# EAGLE library part DRIVER_MAX14941GWE+ (library BA Parts)
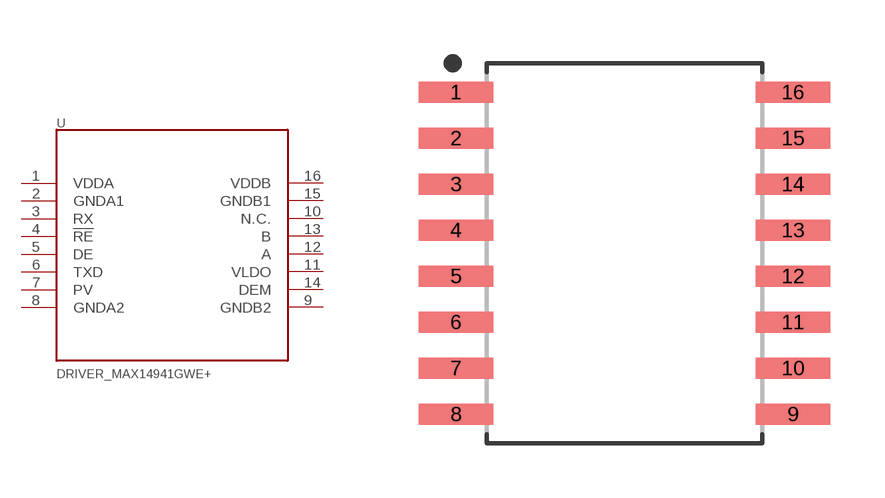
[diagram p5: symbol with the pads of SOIC127P1032X265-16N; footprint SOIC127P1032X265-16N]

Designator prefix -

## DRIVER_MAX14941GWE+  [SOIC127P1032X265-16N]
1  VDDA
2  GNDA1
3  RX
4  !RE
5  DE
6  TXD
7  PV
8  GNDA2
9  GNDB2
10  N.C.
11  VLDO
12  A
13  B
14  DEM
15  GNDB1
16  VDDB

## Footprint SOIC127P1032X265-16N (pad centres in mm)
16-SOIC, 1.27 mm pitch, 10.32 mm span, 10.30 X 7.50 X 2.65 mm body 16-pin SOIC package with 1.27 mm pitch, 10.32 mm span with body size 10.30 X 7.50 X 2.65 mm
smd 2.052 x 0.589: 1 -4.654,4.445; 2 -4.654,3.175; 3 -4.654,1.905; 4 -4.654,0.635; 5 -4.654,-0.635; 6 -4.654,-1.905; 7 -4.654,-3.175; 8 -4.654,-4.445; 9 4.654,-4.445; 10 4.654,-3.175; 11 4.654,-1.905; 12 4.654,-0.635; 13 4.654,0.635; 14 4.654,1.905; 15 4.654,3.175; 16 4.654,4.445